# Altium integrated library ISSI SRAM Synchronous SRAM No-Wait(ZBT).IntLib: 1246 symbols (part 73 of 152)
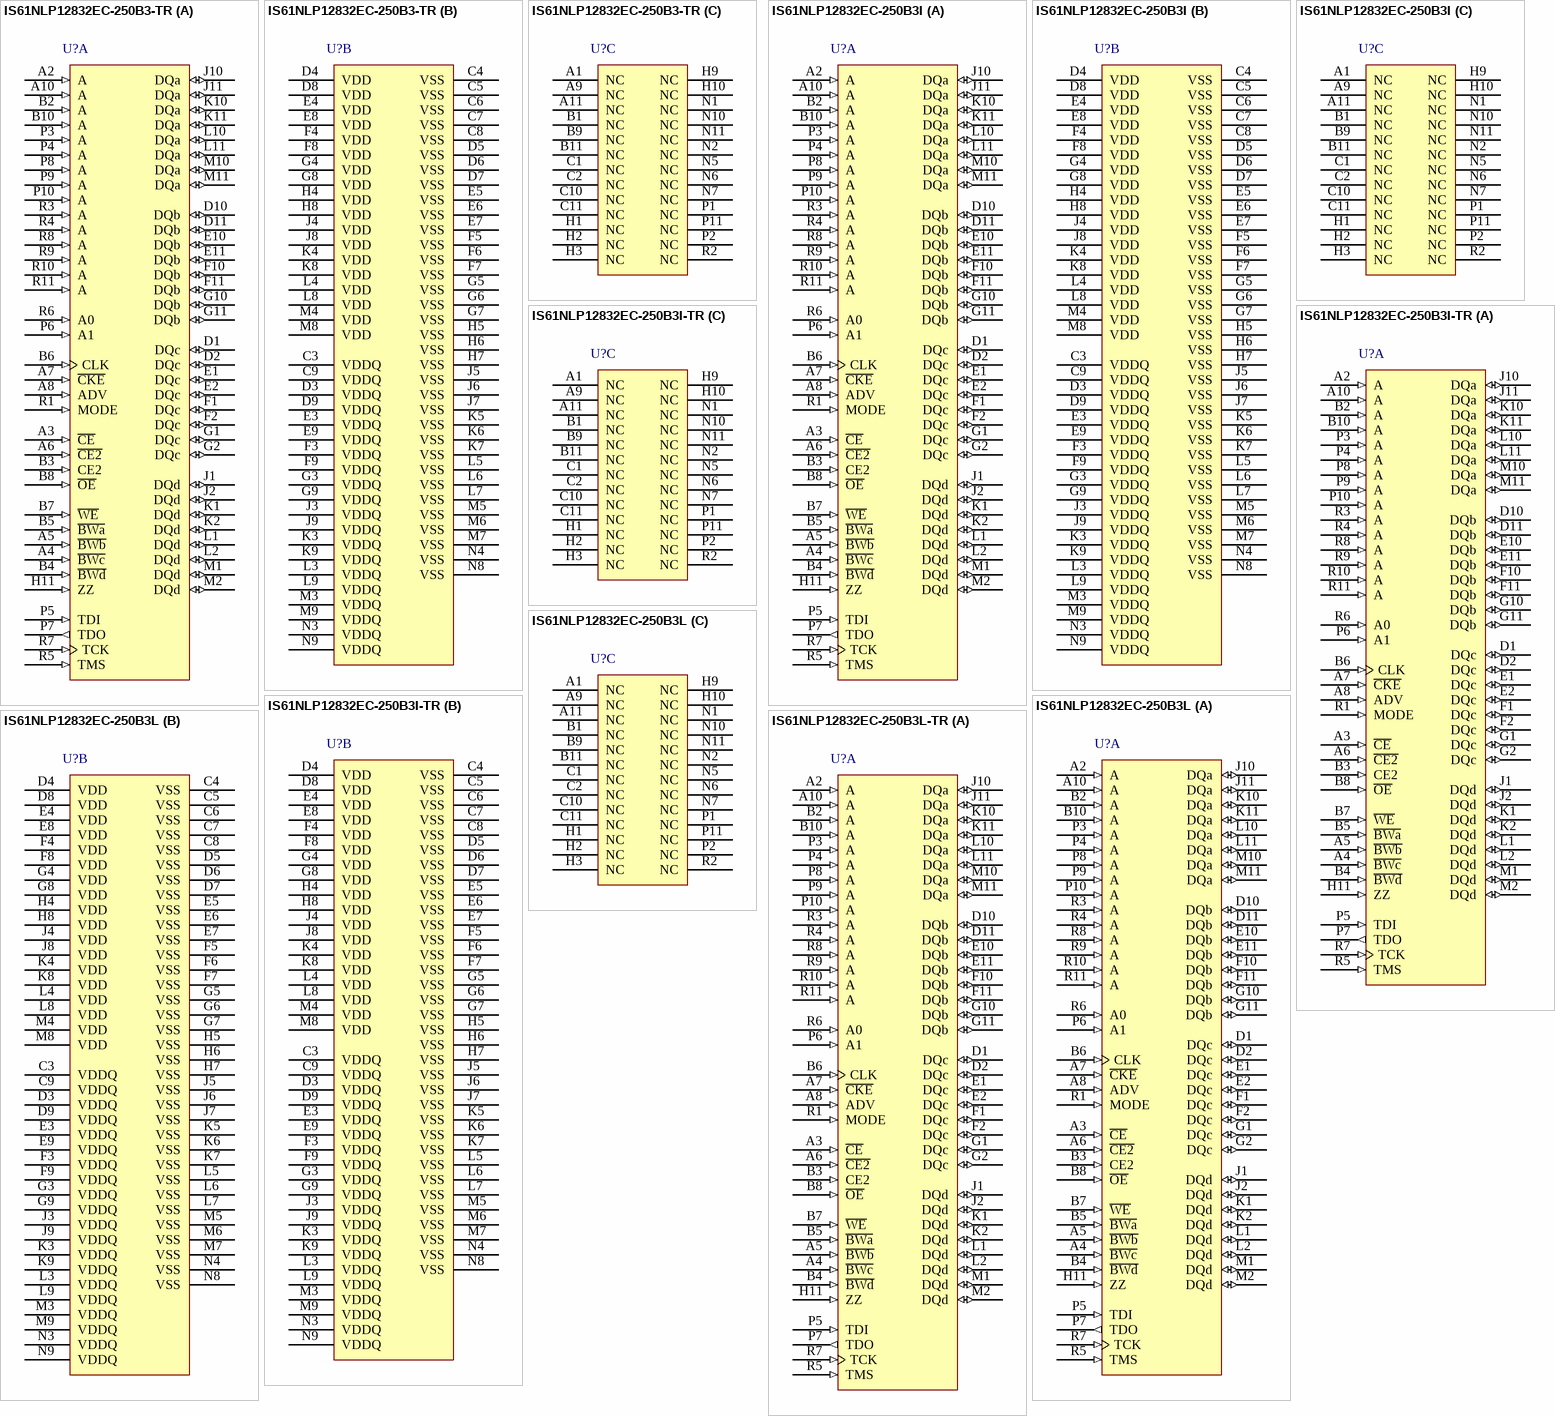
[diagram p374: symbols IS61NLP12832EC-250B3-TR to IS61NLP12832EC-250B3L-TR]

## IS61NLP12832EC-250B3-TR
designator U?
4 M Pipeline 'No Wait' State Bus Synchronous SRAM with ECC, 128 K x 32, 0 to 70 degC, 165-Pin BGA (TF-BGA-165); Manufacturer: Integrated Silicon Solution Inc (ISSI); PartNumber: IS61NLP12832EC-250B3-TR; Density: 4M; Packing: Tape & Reel; Vcc: 3.3 V; VccQ: 2.5 / 3.3 V; DatasheetVersion: Rev. A; PackageVersion: Rev. B, 08/2008; PackageReference: TF-BGA-165; PackageDescription: 165-Pin 13 x 15 mm TF-BGA, Pitch 1 mm; Organization: 128Kx32; Mounting Technology: Surface Mount; ComponentLink1Description: Manufacturer URL; ComponentLink1URL: http://www.issi.com/US/index.shtml; ComponentLink2Description: Datasheet; ComponentLink2URL: http://www.issi.com/WW/pdf/61-64NLP_NVP12832EC-12836EC-25618EC.pdf; ComponentLink3Description: Package Specification; ComponentLink3URL: http://www.issi.com/WW/pdf/61NLP_NVP25636A_51218A.pdf
footprint ISSI-TF-BGA-165-13000X15000DE (BGA, 165-Balls, Body 15x13mm, Pitch 1mm)
part A pins: A2 A (in) "Synchronous Address Inputs", A3 ~{CE} (in) "Synchronous Chip Enable", A4 ~{BWc} (in) "Synchronous Byte Write Inputs", A5 ~{BWb} (in) "Synchronous Byte Write Inputs", A6 ~{CE2} (in) "Synchronous Chip Enable", A7 ~{CKE} (in) "Clock Enable", A8 ADV (in) "Synchronous Advance/Load", A10 A (in) "Synchronous Address Inputs", B2 A (in) "Synchronous Address Inputs", B3 CE2 (in) "Synchronous Chip Enable", B4 ~{BWd} (in) "Synchronous Byte Write Inputs", B5 ~{BWa} (in) "Synchronous Byte Write Inputs", B6 CLK (in) "Synchronous Clock", B7 ~{WE} (in) "Synchronous Byte Write Enable", B8 ~{OE} (in) "Asynchronous Output Enable", B10 A (in) "Synchronous Address Inputs", D1 DQc (io) "Synchronous Data Inputs/Outputs", D2 DQc (io) "Synchronous Data Inputs/Outputs", D10 DQb (io) "Synchronous Data Inputs/Outputs", D11 DQb (io) "Synchronous Data Inputs/Outputs", E1 DQc (io) "Synchronous Data Inputs/Outputs", E2 DQc (io) "Synchronous Data Inputs/Outputs", E10 DQb (io) "Synchronous Data Inputs/Outputs", E11 DQb (io) "Synchronous Data Inputs/Outputs", F1 DQc (io) "Synchronous Data Inputs/Outputs", F2 DQc (io) "Synchronous Data Inputs/Outputs", F10 DQb (io) "Synchronous Data Inputs/Outputs", F11 DQb (io) "Synchronous Data Inputs/Outputs", G1 DQc (io) "Synchronous Data Inputs/Outputs", G2 DQc (io) "Synchronous Data Inputs/Outputs", G10 DQb (io) "Synchronous Data Inputs/Outputs", G11 DQb (io) "Synchronous Data Inputs/Outputs", H11 ZZ (in) "Asynchronous Power Sleep Mode", J1 DQd (io) "Synchronous Data Inputs/Outputs", J2 DQd (io) "Synchronous Data Inputs/Outputs", J10 DQa (io) "Synchronous Data Inputs/Outputs", J11 DQa (io) "Synchronous Data Inputs/Outputs", K1 DQd (io) "Synchronous Data Inputs/Outputs", K2 DQd (io) "Synchronous Data Inputs/Outputs", K10 DQa (io) "Synchronous Data Inputs/Outputs", K11 DQa (io) "Synchronous Data Inputs/Outputs", L1 DQd (io) "Synchronous Data Inputs/Outputs", L2 DQd (io) "Synchronous Data Inputs/Outputs", L10 DQa (io) "Synchronous Data Inputs/Outputs", L11 DQa (io) "Synchronous Data Inputs/Outputs", M1 DQd (io) "Synchronous Data Inputs/Outputs", M2 DQd (io) "Synchronous Data Inputs/Outputs", M10 DQa (io) "Synchronous Data Inputs/Outputs", M11 DQa (io) "Synchronous Data Inputs/Outputs", P3 A (in) "Synchronous Address Inputs", P4 A (in) "Synchronous Address Inputs", P5 TDI (in) "JTAG Pins", P6 A1 (in) "Synchronous Burst Address Inputs", P7 TDO (out) "JTAG Pins", P8 A (in) "Synchronous Address Inputs", P9 A (in) "Synchronous Address Inputs", P10 A (in) "Synchronous Address Inputs", R1 MODE (in) "Burst Sequence Selection", R3 A (in) "Synchronous Address Inputs", R4 A (in) "Synchronous Address Inputs", R5 TMS (in) "JTAG Pins", R6 A0 (in) "Synchronous Burst Address Inputs", R7 TCK (in) "JTAG Pins", R8 A (in) "Synchronous Address Inputs", R9 A (in) "Synchronous Address Inputs", R10 A (in) "Synchronous Address Inputs", R11 A (in) "Synchronous Address Inputs"
part B pins: C3 VDDQ (power) "I/O Power Supply", C4 VSS (power) "Ground", C5 VSS (power) "Ground", C6 VSS (power) "Ground", C7 VSS (power) "Ground", C8 VSS (power) "Ground", C9 VDDQ (power) "I/O Power Supply", D3 VDDQ (power) "I/O Power Supply", D4 VDD (power) "Power Supply", D5 VSS (power) "Ground", D6 VSS (power) "Ground", D7 VSS (power) "Ground", D8 VDD (power) "Power Supply", D9 VDDQ (power) "I/O Power Supply", E3 VDDQ (power) "I/O Power Supply", E4 VDD (power) "Power Supply", E5 VSS (power) "Ground", E6 VSS (power) "Ground", E7 VSS (power) "Ground", E8 VDD (power) "Power Supply", E9 VDDQ (power) "I/O Power Supply", F3 VDDQ (power) "I/O Power Supply", F4 VDD (power) "Power Supply", F5 VSS (power) "Ground", F6 VSS (power) "Ground", F7 VSS (power) "Ground", F8 VDD (power) "Power Supply", F9 VDDQ (power) "I/O Power Supply", G3 VDDQ (power) "I/O Power Supply", G4 VDD (power) "Power Supply", G5 VSS (power) "Ground", G6 VSS (power) "Ground", G7 VSS (power) "Ground", G8 VDD (power) "Power Supply", G9 VDDQ (power) "I/O Power Supply", H4 VDD (power) "Power Supply", H5 VSS (power) "Ground", H6 VSS (power) "Ground", H7 VSS (power) "Ground", H8 VDD (power) "Power Supply", J3 VDDQ (power) "I/O Power Supply", J4 VDD (power) "Power Supply", J5 VSS (power) "Ground", J6 VSS (power) "Ground", J7 VSS (power) "Ground", J8 VDD (power) "Power Supply", J9 VDDQ (power) "I/O Power Supply", K3 VDDQ (power) "I/O Power Supply", K4 VDD (power) "Power Supply", K5 VSS (power) "Ground", K6 VSS (power) "Ground", K7 VSS (power) "Ground", K8 VDD (power) "Power Supply", K9 VDDQ (power) "I/O Power Supply", L3 VDDQ (power) "I/O Power Supply", L4 VDD (power) "Power Supply", L5 VSS (power) "Ground", L6 VSS (power) "Ground", L7 VSS (power) "Ground", L8 VDD (power) "Power Supply", L9 VDDQ (power) "I/O Power Supply", M3 VDDQ (power) "I/O Power Supply", M4 VDD (power) "Power Supply", M5 VSS (power) "Ground", M6 VSS (power) "Ground", M7 VSS (power) "Ground", M8 VDD (power) "Power Supply", M9 VDDQ (power) "I/O Power Supply", N3 VDDQ (power) "I/O Power Supply", N4 VSS (power) "Ground", N8 VSS (power) "Ground", N9 VDDQ (power) "I/O Power Supply"
part C pins: A1 NC "No Connect", A9 NC "No Connect", A11 NC "No Connect", B1 NC "No Connect", B9 NC "No Connect", B11 NC "No Connect", C1 NC "No Connect", C2 NC "No Connect", C10 NC "No Connect", C11 NC "No Connect", H1 NC "No Connect", H2 NC "No Connect", H3 NC "No Connect", H9 NC "No Connect", H10 NC "No Connect", N1 NC "No Connect", N2 NC "No Connect", N5 NC "No Connect", N6 NC "No Connect", N7 NC "No Connect", N10 NC "No Connect", N11 NC "No Connect", P1 NC "No Connect", P2 NC "No Connect", P11 NC "No Connect", R2 NC "No Connect"